# Altium schematic symbol library FPS_Anzeige_V2.SchLib: 16 symbols
Pins are listed as number, name and electrical type; pins without a type are passive.

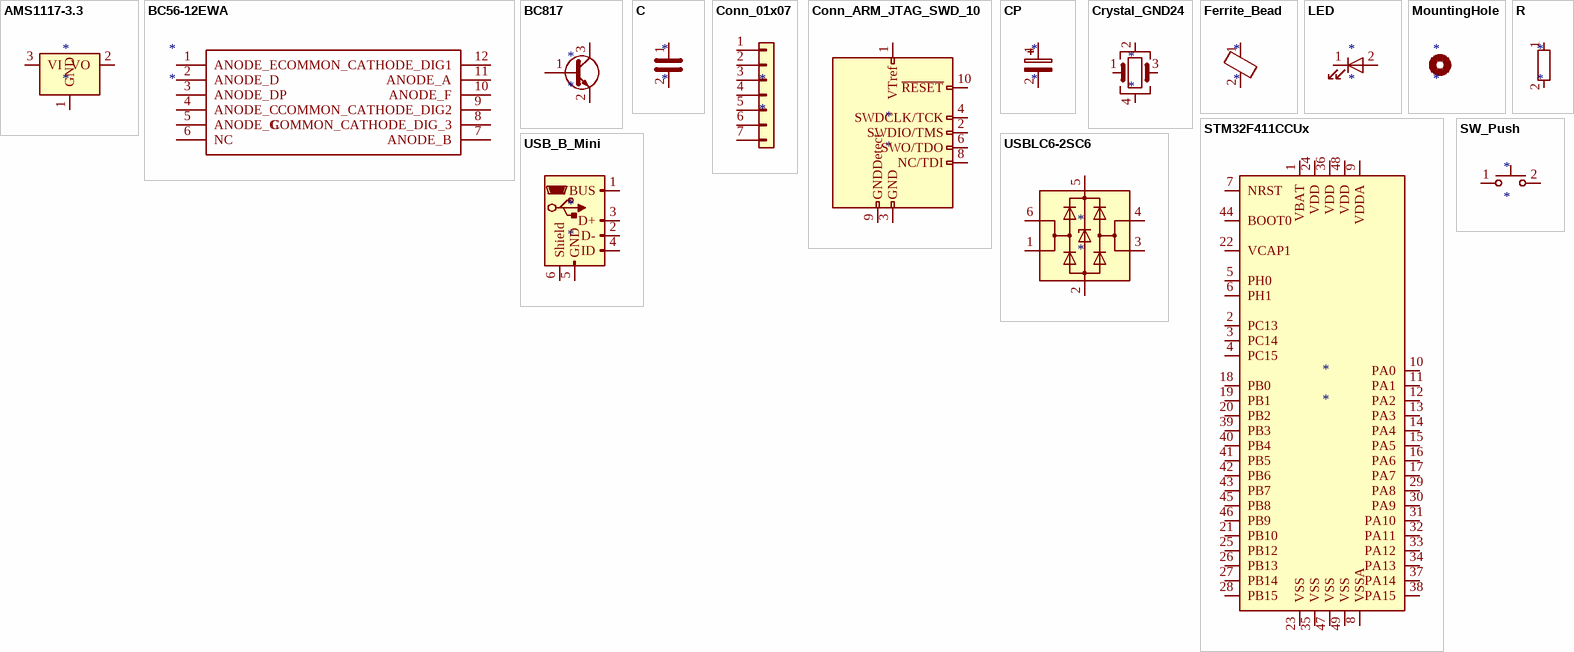
[diagram p0: symbols AMS1117-3.3 to USBLC6-2SC6]

## AMS1117-3.3
designator *
pins: 1 GND, 2 VO, 3 VI

## BC56-12EWA
designator *
pins: 1 ANODE_E, 2 ANODE_D, 3 ANODE_DP, 4 ANODE_C, 5 ANODE_G, 6 NC, 7 ANODE_B, 8 COMMON_CATHODE_DIG_3, 9 COMMON_CATHODE_DIG2, 10 ANODE_F, 11 ANODE_A, 12 COMMON_CATHODE_DIG1

## BC817
designator *
pins: 1 B, 2 E, 3 C

## C
designator *
pins: 1, 2

## Conn_01x07
designator *
pins: 1 Pin_1, 2 Pin_2, 3 Pin_3, 4 Pin_4, 5 Pin_5, 6 Pin_6, 7 Pin_7

## Conn_ARM_JTAG_SWD_10
designator *
pins: 1 VTref, 2 SWDIO/TMS, 3 GND, 4 SWDCLK/TCK, 5 GND hidden, 6 SWO/TDO, 7 KEY hidden, 8 NC/TDI, 9 GNDDetect, 10 ~{RESET}

## CP
designator *
pins: 1, 2

## Crystal_GND24
designator *
pins: 1, 2, 3, 4

## Ferrite_Bead
designator *
pins: 1, 2

## LED
designator *
pins: 1 K, 2 A

## MountingHole
designator *

## R
designator *
pins: 1, 2

## STM32F411CCUx
designator *
pins: 1 VBAT, 2 PC13, 3 PC14, 4 PC15, 5 PH0, 6 PH1, 7 NRST, 8 VSSA, 9 VDDA, 10 PA0, 11 PA1, 12 PA2, 13 PA3, 14 PA4, 15 PA5, 16 PA6, 17 PA7, 18 PB0, 19 PB1, 20 PB2, 21 PB10, 22 VCAP1, 23 VSS, 24 VDD, 25 PB12, 26 PB13, 27 PB14, 28 PB15, 29 PA8, 30 PA9, 31 PA10, 32 PA11, 33 PA12, 34 PA13, 35 VSS, 36 VDD, 37 PA14, 38 PA15, 39 PB3, 40 PB4, 41 PB5, 42 PB6, 43 PB7, 44 BOOT0, 45 PB8, 46 PB9, 47 VSS, 48 VDD, 49 VSS

## SW_Push
designator *
pins: 1, 2

## USB_B_Mini
designator *
pins: 1 VBUS, 2 D-, 3 D+, 4 ID, 5 GND, 6 Shield

## USBLC6-2SC6
designator *
pins: 1 I/O1, 2 GND, 3 I/O2, 4 I/O2, 5 VBUS, 6 I/O1